# Altium footprint library Passives.PcbLib: 66 footprints (part 1 of 5)
Each footprint in its own frame and in the unit in brackets; x right, y up, seen from the top. Pads: shape width x height; smd on the part's side, far side on the other; paste and mask are expansions set on the pad; w line width, h text height; cw(c..) or ccw(c..) is an arc to the next point about the centre after c.
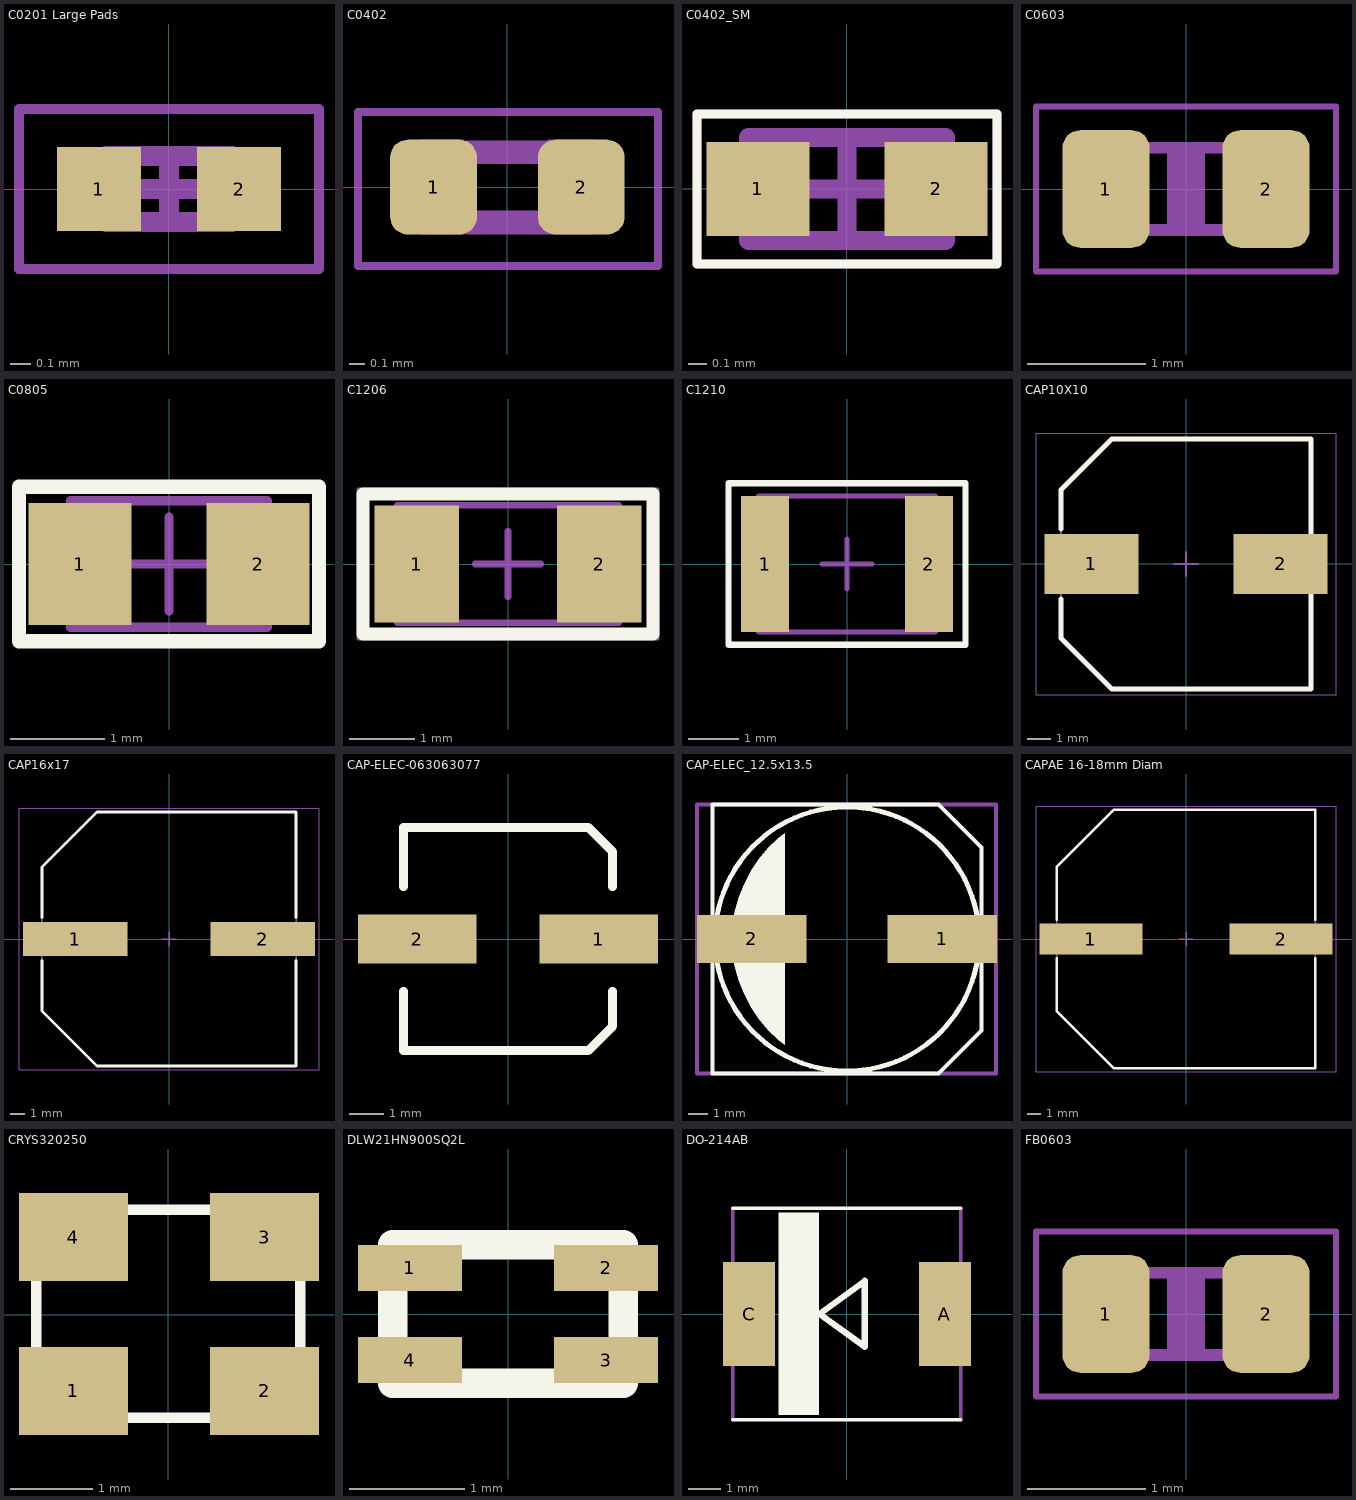
[diagram p0: the footprints below, top view; thin cyan lines are the x and y axes]

## C0201 Large Pads [mm] "Chip Capacitor, 2-Leads, Body 0.60x0.30mm, IPC Medium Density"
height 0.33
pads (2):
  rect 0.42x0.42 smd: 1(-0.35,0) 2(0.35,0)
Mechanical 13:
  lines w0.1: -0.315,-0.165 -0.315,0.165 0.315,0.165 0.315,-0.165 -0.315,-0.165
Mechanical 15:
  lines w0.05: -0.75,-0.4 -0.75,0.4 0.75,0.4 0.75,-0.4 -0.75,-0.4
  lines w0.1: -0.165,0 0.165,0 ; 0,-0.165 0,0.165
3D body: height 0.33, standoff 0, extent -0.215,-0.165 0.215,0.165
3D body: height 0.33, standoff 0, extent -0.315,-0.165 -0.215,0.165
3D body: height 0.33, standoff 0, extent 0.215,-0.165 0.315,0.165

## C0402 [mil]
pads (2):
  rrect40% 22x24 smd: 1(-18.7,0) 2(18.7,0)
Top Assembly:
  lines w6: -9.85,-9 9.8,-9 ; -9.85,8.82 9.8,8.82
Mechanical 8:
  region: 21.95,12 10.13,12 10.13,-12 21.95,-12
  region: -10.85,12 -21.85,12 -21.85,-12 -10.85,-12
Mechanical 15:
  lines w2: -37.85,-20 38.14,-20 ; -37.85,-20 -37.85,19.02 ; -37.85,-20 38.14,-20 ; -37.85,-20 -37.85,19.02 ; -37.85,19.02 38.14,19.02 ; -37.85,19.02 38.14,19.02 ; 38.14,-20 38.14,19.02 ; 38.14,-20 38.14,19.02
3D body: height 19.68, standoff 0, extent -19.85,-10 20.15,10

## C0402_SM [mm] "Chip Capacitor, Ceramic, 0402, Manually adjusted"
height 0.51
pads (2):
  rect 0.55x0.5 smd: 1(-0.475,0) 2(0.475,0)
Top Overlay:
  lines w0.05: -0.8,-0.4 0.8,-0.4 0.8,0.4 -0.8,0.4 -0.8,-0.4
Mechanical 13:
  lines w0.1: -0.525,-0.275 -0.525,0.275 0.525,0.275 0.525,-0.275 -0.525,-0.275
Mechanical 15:
  lines w0.05: -0.8,-0.4 -0.8,0.4 0.8,0.4 0.8,-0.4 -0.8,-0.4
  lines w0.1: -0.275,0 0.275,0 ; 0,-0.275 0,0.275
3D body "C0402.step": height 0.51, standoff 0, extent -0.525,-0.275 0.525,0.275

## C0603 [mm]
pads (2):
  rrect40% 0.74x1 smd: 1(-0.68,0) 2(0.68,0)
Top Assembly:
  rectangle: -0.799,-0.4 -0.449,0.4
  rectangle: 0.451,-0.4 0.801,0.4
  lines w0.1: -0.45,0.35 0.45,0.35
  lines w0.102: -0.45,-0.35 0.45,-0.35
Mechanical 6:
  rectangle: -0.16,-0.299 0.16,0.301
Mechanical 15:
  lines w0.051: -1.275,-0.7 1.275,-0.7 ; -1.275,-0.7 -1.275,0.7 ; -1.275,-0.7 1.275,-0.7 ; -1.275,-0.7 -1.275,0.7 ; -1.275,0.7 1.275,0.7 ; -1.275,0.7 1.275,0.7 ; 1.275,-0.7 1.275,0.7 ; 1.275,-0.7 1.275,0.7
3D body: height 0.8, standoff 0, extent -0.8,-0.4 0.8,0.4

## C0805 [mm]
height 0.95
pads (2):
  rect 1.1x1.3 smd: 1(-0.95,0) 2(0.95,0)
Top Overlay:
  lines w0.152: -1.6,-0.825 1.6,-0.825 1.6,0.825 -1.6,0.825 -1.6,-0.825
Mechanical 13:
  lines w0.1: -1.05,-0.675 -1.05,0.675 1.05,0.675 1.05,-0.675 -1.05,-0.675
Mechanical 15:
  lines w0.05: -1.575,-0.8 -1.575,0.8 1.575,0.8 1.575,-0.8 -1.575,-0.8
  lines w0.1: -0.5,0 0.5,0 ; 0,-0.5 0,0.5
3D body "C0805.step": height 0.95, standoff 0, extent -1.05,-0.675 1.05,0.675

## C1206 [mm]
height 1.8
pads (2):
  rect 1.3x1.8 smd mask+0.051: 1(-1.4,0) 2(1.4,0)
Top Overlay:
  lines w0.203: -2.225,-1.075 -2.225,1.075 2.225,1.075 2.225,-1.075 -2.225,-1.075
Mechanical 13:
  lines w0.1: -1.7,-0.9 -1.7,0.9 1.7,0.9 1.7,-0.9 -1.7,-0.9
Mechanical 15:
  lines w0.05: -2.3,-1.15 -2.3,1.15 2.3,1.15 2.3,-1.15 -2.3,-1.15
  lines w0.1: -0.5,0 0.5,0 ; 0,-0.5 0,0.5
3D body "C1206.step": height 1.8, standoff 0, extent -1.7,-0.9 1.7,0.9

## C1210 [mm]
height 2.7
pads (2):
  rect 0.95x2.7 smd: 1(-1.625,0) 2(1.625,0)
Top Overlay:
  lines w0.127: -2.35,-1.6 2.35,-1.6 2.35,1.6 -2.35,1.6 -2.35,-1.6
Mechanical 13:
  lines w0.1: -1.75,-1.35 -1.75,1.35 1.75,1.35 1.75,-1.35 -1.75,-1.35
Mechanical 15:
  lines w0.05: -2.35,-1.6 -2.35,1.6 2.35,1.6 2.35,-1.6 -2.35,-1.6
  lines w0.1: -0.5,0 0.5,0 ; 0,-0.5 0,0.5
3D body "C1210.step": height 2.7, standoff 0, extent -1.75,-1.35 1.75,1.35

## CAP10X10 [mm] "Aluminum Electrolytic Capacitor, Body 10.30x10.30x10.80mm, IPC High Density"
height 10.8
pads (2):
  rect 3.95x2.5 smd: 1(-3.975,0) 2(3.975,0)
Top Overlay:
  lines w0.2: -5.25,-1.475 -5.25,-3.113 -3.113,-5.25 5.25,-5.25 5.25,-1.275 ; -5.25,1.475 -5.25,3.112 -3.113,5.25 5.25,5.25 5.25,1.275
Mechanical 13:
  lines w0.1: -5.25,-3.113 -3.113,-5.25 5.25,-5.25 5.25,5.25 -3.113,5.25 -5.25,3.112 -5.25,-3.113
Mechanical 15:
  lines w0.05: -6.3,-5.5 -6.3,5.5 6.3,5.5 6.3,-5.5 -6.3,-5.5
  lines w0.1: -0.5,0 0.5,0 ; 0,-0.5 0,0.5
3D body "CAP10X10.step": height 10.8, standoff 0, extent -5.45,-5.25 5.45,5.25

## CAP16x17 [mm] "Aluminum Electrolytic Capacitor, Body 10.30x10.30x10.80mm, IPC High Density"
height 10.8
pads (2):
  rect 7.05x2.3 smd: 1(-6.345,0) 2(6.345,0)
Top Overlay:
  lines w0.2: -8.6,-1.45 -8.6,-4.875 -4.875,-8.6 8.6,-8.6 8.6,-1.45 ; -8.6,1.45 -8.6,4.875 -4.875,8.6 8.6,8.6 8.6,1.45
Top Assembly:
  lines w0.1: -8.6,-4.875 -4.875,-8.6 8.6,-8.6 8.6,8.6 -4.875,8.6 -8.6,4.875 -8.6,-4.875
Top Courtyard:
  lines w0.05: -10.15,-8.85 -10.15,8.85 10.15,8.85 10.15,-8.85 -10.15,-8.85
  lines w0.1: -0.5,0 0.5,0 ; 0,-0.5 0,0.5
3D body: height 5.67, standoff 0, extent -8.6,-8.6 8.6,8.6
3D body: height 17, standoff 0, extent -8,-8 8,8

## CAP-ELEC-063063077 [mm] "6.3x6.3x7.7mm"
height 7.7
pads (2):
  rect 3.4x1.4 smd: 1(2.6,0) 2(-2.6,0)
Top Overlay:
  lines w0.254: -3,-1.5 -3,-3.2 2.3,-3.2 3,-2.5 3,-1.5 ; -3,1.5 -3,3.2 2.3,3.2 3,2.5 3,1.5
3D body "User Library-ALU-D.STEP": height 5.4, standoff 0, extent -3.5,-3.3 3.5,3.3

## CAP-ELEC_12.5x13.5 [mm]
pads (2):
  rect 5.7x2.5 smd: 1(4.95,0) 2(-4.95,0)
Top Overlay:
  circle w0.254: c0,0 r6.865
  region: -3.25,5.5 -3.548,5.264 -4.092,4.733 -4.578,4.148 -5,3.516 -5.355,2.844 -5.637,2.138 -5.844,1.406 -5.974,0.657 -6,0.278 -6,-0.278 -5.974,-0.657 -5.844,-1.406 -5.637,-2.138 -5.355,-2.844 -5,-3.516 -4.578,-4.148 -4.092,-4.733 -3.548,-5.264 -3.25,-5.5
  region: -2.75,6.5
  lines w0.203: -7,-7 4.75,-7 7,-4.75 7,4.75 4.75,7 -7,7 -7,-7
Mechanical 15:
  lines w0.203: -7.798,-7 7.747,-7 7.747,7 -7.798,7 -7.798,-7
3D body "CAP_EEFK_H13.stp": height 14.05, standoff 0, extent -7.506,-6.845 7.506,6.845

## CAPAE 16-18mm Diam [mm] "Aluminum Electrolytic Capacitor, Body 18.00x18.00x21.00mm, IPC High Density"
height 21
pads (2):
  rect 7.65x2.3 smd: 1(-7.075,0) 2(7.075,0)
Top Overlay:
  lines w0.2: -9.6,-1.45 -9.6,-5.375 -5.375,-9.6 9.6,-9.6 9.6,-1.45 ; -9.6,1.45 -9.6,5.375 -5.375,9.6 9.6,9.6 9.6,1.45
Top Assembly:
  lines w0.1: -9.6,-5.375 -5.375,-9.6 9.6,-9.6 9.6,9.6 -5.375,9.6 -9.6,5.375 -9.6,-5.375
Top Courtyard:
  lines w0.05: -11.15,-9.85 -11.15,9.85 11.15,9.85 11.15,-9.85 -11.15,-9.85
  lines w0.1: -0.5,0 0.5,0 ; 0,-0.5 0,0.5
3D body: height 7, standoff 0, extent -9.6,-9.6 9.6,9.6
3D body: height 21, standoff 0, extent -9,-9 9,8.994

## CRYS320250 [mil]
pads (4):
  rect 52x42 smd: 1(-45.28,-36.42) 2(46,-36.42) 3(46,37) 4(-45.28,37)
Top Overlay:
  lines w5: -62.99,-49.21 -62.99,50 63,50 63,-49.21 -62.99,-49.21
3D body: height 27.56, standoff 0, extent -62.97,-49.19 62.98,49.98

## DLW21HN900SQ2L [mm]
height 0.6
pads (4):
  rect 0.9x0.4 smd: 1(-0.85,0.4) 2(0.85,0.4) 3(0.85,-0.4) 4(-0.85,-0.4)
Top Overlay:
  lines w0.254: -1,-0.6 1,-0.6 1,0.6 -1,0.6 -1,-0.6
3D body: height 1, standoff 0, extent -0.999,-0.599 0.999,0.599

## DO-214AB [mil]
pads (2):
  rect 63x126 smd: A(119,0) C(-118.11,0)
Top Overlay:
  rectangle: -82.68,-122.05 -33.46,123
  lines w4: -137.8,-127.95 138,-127.95 ; -137.8,128 138,128
  lines w8: -32.68,0 22,-39.37 22,40 -32.68,0
Mechanical 8:
  rectangle: 116,-43 137,43
  rectangle: -136.18,-43 -115.18,43
  lines w4: -137.8,-127.95 -137.8,128 ; 138,-127.95 138,128
3D body: height 98.43, standoff 0, extent -139.8,-129.95 140,130

## FB0603 [mm] "Ferrite Bead, Samsung CIS10P High Current Series"
height 0.95
pads (2):
  rrect40% 0.74x1 smd: 1(-0.68,0) 2(0.68,0)
Mechanical 6:
  rectangle: -0.16,-0.299 0.16,0.301
Mechanical 8:
  rectangle: -0.799,-0.4 -0.449,0.4
  rectangle: 0.451,-0.4 0.801,0.4
  lines w0.1: -0.45,0.35 0.45,0.35
  lines w0.102: -0.45,-0.35 0.45,-0.35
Mechanical 15:
  lines w0.051: -1.275,-0.7 -1.275,0.7 ; -1.275,-0.7 1.275,-0.7 ; -1.275,-0.7 1.275,-0.7 ; -1.275,-0.7 -1.275,0.7 ; -1.275,0.7 1.275,0.7 ; -1.275,0.7 1.275,0.7 ; 1.275,-0.7 1.275,0.7 ; 1.275,-0.7 1.275,0.7
3D body: height 0.8, standoff 0, extent -0.8,-0.4 0.8,0.4